# Altium schematic symbol library Linear Regulators.SchLib: 6 symbols
Pins are listed as number, name and electrical type; pins without a type are passive.

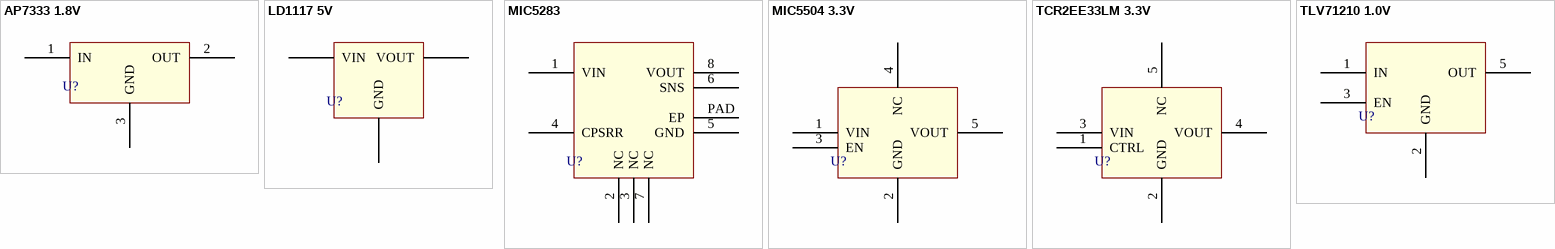
[diagram p0: symbols AP7333 1.8V to TLV71210 1.0V]

## AP7333 1.8V
designator U?, comment Regulator  (value not drawn)
AP7333 1.8V Linear Regulator; Manufacturer Part No.: AP7333-18SAG-7; Digi-Key Part No.: AP7333-18SAG-7DICT-ND
footprint SOT-23-3
pins: 1 IN, 2 OUT, 3 GND

## LD1117 5V
designator U?, comment Regulator  (value not drawn)
5V Linear Regulator; Manufacturer Part No.: LD1117S50CTR; Output Current: 800mA; Digi-Key Part No.: 497-1243-1-ND
pins: 1 GND, 2 VOUT, 3 VIN

## MIC5283
designator U?, comment Regulator  (value not drawn)
3.3V Regulator; Manufacturer Part No.: MIC5283-3.3YML-TR; Vin,Max: 120VDC; Iout: 150mA; Digi-Key Part No.: MIC5283-3.3YML-CT-ND; Vout: 3.3V
footprint MLF 3x3 (QFN, 8-Leads, Body 3.00x3.00mm, Pitch 0.65mm, Thermal Pad 1.55x2.30mm, IPC Medium Density)
pins: 1 VIN, 2 NC, 3 NC, 4 CPSRR, 5 GND, 6 SNS, 7 NC, 8 VOUT, PAD EP

## MIC5504 3.3V
designator U?, comment Regulator  (value not drawn)
MIC5504 3.3V Regulator; Manufacturer Part No.: MIC5504-3.3YM5-TR; Imax: 300mA; Digi-Key Part No.: 576-4764-1-ND; Vout: 3.3V
footprint SOT-23 (Linear Regulator)
pins: 1 VIN, 2 GND, 3 EN, 4 NC, 5 VOUT

## TCR2EE33LM 3.3V
designator U?, comment Regulator  (value not drawn)
TCR2EE33LM 3.3V Regulator; Manufacturer Part No.: TCR2EE33,LM(CT; Imax: 200mA; Digi-Key Part No.: TCR2EE33LM(CTCT-ND; Vout: 3.3V
footprint SOT-553
pins: 1 CTRL, 2 GND, 3 VIN, 4 VOUT, 5 NC

## TLV71210 1.0V
designator U?, comment Regulator  (value not drawn)
1.0V Linear Regulator; Manufacturer Part No.: TLV71210DBVR; Digi-Key Part No.: 296-29737-1-ND; Vout: 1.0V
footprint SOT-23-5 (Linear Regulator)
pins: 1 IN, 2 GND, 3 EN, 5 OUT